# Altium schematic symbol library GFZJ 主控制板.SchLib: 26 symbols
Pins are listed as number, name and electrical type; pins without a type are passive.

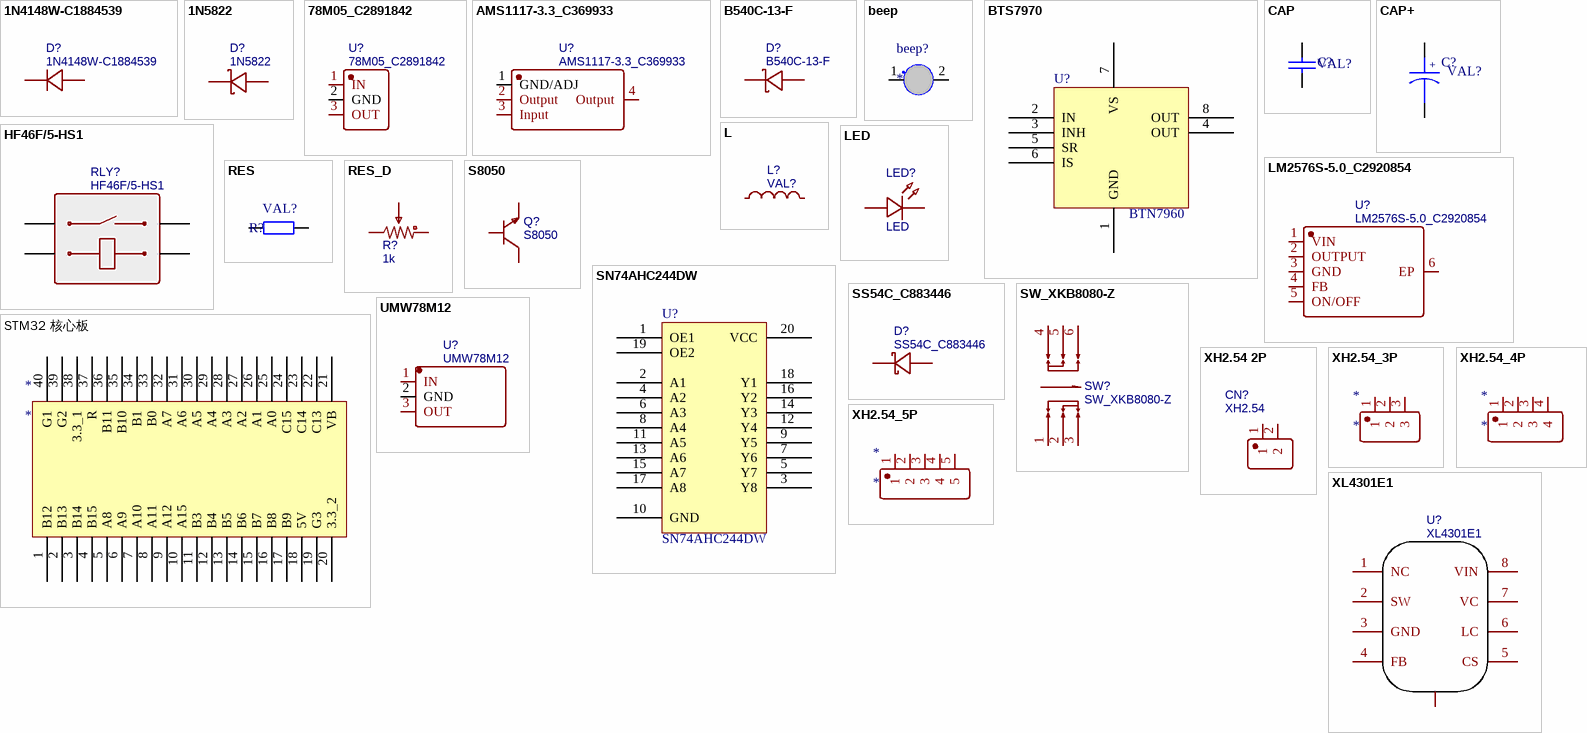
[diagram p0: symbols 1N4148W-C1884539 to XL4301E1]

## 1N4148W-C1884539
designator D?
BOM_Manufacturer: YFW佑风微; Contributor: LCSC; BOM_Supplier: LCSC; BOM_Supplier Part: C1884539; BOM_Manufacturer Part: 1N4148W; BOM_JLCPCB Part Class: Extended Part; spicePre: D; spiceSymbolName: 1N4148W-C1884539
footprint SOD-123_L2.8-W1.8-LS3.7-RD
pins: 1 K, 2 A

## 1N5822
designator D?
BOM_Manufacturer: KEXIN; BOM_Manufacturer Part: 1N5819; Contributor: LCSC; BOM_Supplier: LCSC; BOM_Supplier Part: C437199; BOM_JLCPCB Part Class: Extended Part; spicePre: D; spiceSymbolName: 1N5819_C437199
footprint SMA_L4.4-W2.6-LS5.0-RD
pins: 1 C, 2 A

## 78M05_C2891842
designator U?
78M05; BOM_Manufacturer: YONGYUTAI(永裕泰); Contributor: LCSC; BOM_Supplier: LCSC; BOM_Supplier Part: C2891842; BOM_Manufacturer Part: 78M05; BOM_JLCPCB Part Class: Extended Part; spicePre: U; spiceSymbolName: 78M05_C2891842
footprint TO-252-2_L6.5-W5.5-P4.58-LS9.8-BR-CW
pins: 1 IN, 2 GND, 3 OUT

## AMS1117-3.3_C369933
designator U?
AMS1117-3.3; BOM_Manufacturer: KEXIN; Contributor: LCSC; BOM_Supplier: LCSC; BOM_Supplier Part: C369933; BOM_Manufacturer Part: AMS1117-3.3; BOM_JLCPCB Part Class: Extended Part; spicePre: U; spiceSymbolName: AMS1117-3.3_C369933
footprint SOT-223-4_L6.5-W3.5-P2.30-LS7.0-BR
pins: 1 GND/ADJ, 2 Output, 3 Input, 4 Output

## B540C-13-F
designator D?
BOM_Manufacturer: DIODES; BOM_Supplier: LCSC; BOM_Manufacturer Part: B540C-13-F; BOM_Supplier Part: C72264; BOM_JLCPCB Part Class: Extended Part; spicePre: D; spiceSymbolName: B540C-13-F
footprint SMC_L6.9-W5.9-LS7.9-RD
pins: 1 K, 2 A

## beep
designator beep?
footprint beep
pins: 1, 2

## BTS7970
designator U?, comment BTN7960
footprint BTN7960
pins: 1 GND, 2 IN, 3 INH, 4 OUT, 5 SR, 6 IS, 7 VS, 8 OUT

## CAP
designator C?, comment value VAL?  (hidden comment: Capacitor)
footprint 0805C
footprint 0603C
footprint 1206C
pins: 1, 2

## CAP+
designator C?, comment value VAL?  (hidden comment: Capacitor)
footprint RB.1/.2
footprint RB.2/.4
footprint RB.3/.6
footprint RB.4/.8
footprint RB.1/.3
footprint CAP-TH_BD8.0-P3.50-D0.6-FD (8*12 (100uf 50v) (1000uf 10v))
footprint CAP-TH_BD5.0-P2.00-D0.8-FD
footprint 100uf6.3v钽电容
pins: 1, 2
text: +

## HF46F/5-HS1
designator RLY?
BOM_Manufacturer: HF; BOM_Supplier: LCSC; BOM_Manufacturer Part: HF46F/5-HS1; BOM_Supplier Part: C27167; BOM_JLCPCB Part Class: Extended Part; spicePre: R; spiceSymbolName: HF46F/5-HS1
footprint RELAY-TH_HF46F-XX-HS1XX-XXX
pins: 1, 2, 3, 4

## L
designator L?, comment VAL?
Inductance; BOM_Manufacturer: FH; BOM_Manufacturer Part: VLU0810-101K; BOM_Supplier: LCSC; nameAlias: Inductance; BOM_Supplier Part: C72630; BOM_JLCPCB Part Class: Extended Part; spicePre: L; spiceSymbolName: VLU0810-101K
footprint IND-TH_BD10.0-P5.00-D0.7
footprint 43uh 3A电感
pins: 1, 2

## LED
designator LED?
BOM_Manufacturer: EVERLIGHT(台湾亿光); BOM_Manufacturer Part: 19-217/R6C-AL1M2VY/3T; Contributor: LCEDA_01; BOM_Supplier Part: C72044; BOM_Supplier: LCSC; spicePre: L; spiceSymbolName: LED-0603_R
footprint LED0603_RED
footprint LED-TH_BD4.3-P2.54 (直插LED)
pins: 1, 2

## LM2576S-5.0_C2920854
designator U?
LM2576S-5.0; BOM_Manufacturer: minos(迈诺斯); Contributor: LCSC; BOM_Supplier: LCSC; BOM_Supplier Part: C2920854; BOM_Manufacturer Part: LM2576S-5.0; BOM_JLCPCB Part Class: Extended Part; spicePre: U; spiceSymbolName: LM2576S-5.0_C2920854
footprint TO-263-5_L10.2-W8.6-P1.70-LS14.4-TL
pins: 1 VIN, 2 OUTPUT, 3 GND, 4 FB, 5 ON/OFF, 6 EP

## RES
designator R?, comment value VAL?  (hidden comment: Resistor)
Resistor SMD - IEC symbol version; LatestRevisionDate: 27-Jul-20  -  Semtech
footprint 0603R
footprint 0805R
footprint 1206R
footprint 3216R
pins: 1, 2

## RES_D
designator R?, comment 1k
电位器; BOM_Manufacturer: Chengdu Guosheng Tech; BOM_Manufacturer Part: 3362P-1-102; nameAlias: Resistance; Contributor: LCSC; BOM_Supplier: LCSC; BOM_Supplier Part: C118947; Resistance(Ohms): 1K; Resistance (Ohms): 1K; BOM_JLCPCB Part Class: Extended Part; spicePre: R; spiceSymbolName: 3362P-1-102
footprint 电位器
pins: 1, 2, 3

## S8050
designator Q?
BOM_Manufacturer: BORN伯恩半导体; Contributor: mengruisheng; BOM_Supplier Part: C266592; BOM_Supplier: LCSC; spicePre: Q; spiceSymbolName: NPN; BOM_Manufacturer Part: S8050
footprint SOT-23
pins: 1 B, 2 E, 3 C

## SN74AHC244DW
designator U?
footprint sn74ahc244dw
pins: 1 OE1, 2 A1, 3 Y8, 4 A2, 5 Y7, 6 A3, 7 Y6, 8 A4, 9 Y5, 10 GND, 11 A5, 12 Y4, 13 A6, 14 Y3, 15 A7, 16 Y2, 17 A8, 18 Y1, 19 OE2, 20 VCC

## SS54C_C883446
designator D?
BOM_Manufacturer: DOWO; BOM_Manufacturer Part: SS54C; Contributor: LCSC; BOM_Supplier: LCSC; BOM_Supplier Part: C883446; BOM_JLCPCB Part Class: Extended Part; spicePre: D; spiceSymbolName: SS54C_C883446
footprint SMC_L6.9-W5.9-LS7.9-RD
pins: 1 C, 2 A

## STM32 核心板
designator *
STM32
footprint STM32_A
pins: 1 B12, 2 B13, 3 B14, 4 B15, 5 A8, 6 A9, 7 A10, 8 A11, 9 A12, 10 A15, 11 B3, 12 B4, 13 B5, 14 B6, 15 B7, 16 B8, 17 B9, 18 5V, 19 G3, 20 3.3_2, 21 VB, 22 C13, 23 C14, 24 C15, 25 A0, 26 A1, 27 A2, 28 A3, 29 A4, 30 A5, 31 A6, 32 A7, 33 B0, 34 B1, 35 B10, 36 B11, 37 R, 38 3.3_1, 39 G2, 40 G1

## SW_XKB8080-Z
designator SW?
8*8自锁/无锁按钮开关 自锁 按下2-3 4-5松开1-3 4-6; BOM_Manufacturer: XKB Enterprise; Contributor: LCSC; BOM_Supplier: LCSC; BOM_Supplier Part: C318860; BOM_Manufacturer Part: XKB8080-Z; BOM_JLCPCB Part Class: Extended Part; spicePre: S; spiceSymbolName: XKB8080-Z
footprint SW-TH_6P-L8.0-W8.0-P2.50
pins: 1, 2, 3, 4, 5, 6

## UMW78M12
designator U?
78M12; BOM_Manufacturer: Youtai Semiconductor Co., Ltd.; Contributor: LCSC; BOM_Supplier: LCSC; BOM_Supplier Part: C347282; BOM_Manufacturer Part: UMW78M12; BOM_JLCPCB Part Class: Extended Part; spicePre: U; spiceSymbolName: UMW78M12
footprint TO-252-2_L6.6-W6.1-P4.57-LS9.9-BR-CW
pins: 1 IN, 2 GND, 3 OUT

## XH2.54 2P
designator CN?, comment XH2.54
BOM_Manufacturer: BOOMELE; BOM_Manufacturer Part: XH2.54Acupuncture needles 16pin; BOM_Supplier: LCSC; BOM_Supplier Part: C24983; BOM_JLCPCB Part Class: Extended Part; spicePre: C; spiceSymbolName: XH-16AW
footprint XH2.54_2P (XH2.54)
footprint 5.08 LINKER 1*2 (5.08MM间距接线端子)
pins: 1, 2

## XH2.54_3P
designator *
footprint XH2.54_3P (XH2.54)
pins: 1, 2, 3

## XH2.54_4P
designator *
footprint XH2.54_4P (XH2.54)
pins: 1, 2, 3, 4

## XH2.54_5P
designator *
footprint XH2.54_5P (XH2.54)
pins: 1, 2, 3, 4, 5

## XL4301E1
designator U?
BOM_Manufacturer: XLSEMI; BOM_Supplier: LCSC; BOM_Manufacturer Part: XL4301E1; BOM_Supplier Part: C73024; BOM_JLCPCB Part Class: Extended Part; spicePre: U; spiceSymbolName: XL4301E1
footprint SOIC-8_L5.0-W4.0-P1.27-LS6.0-BL-EP2.0
pins: 1 NC, 2 SW, 3 GND, 4 FB, 5 CS, 6 LC, 7 VC, 8 VIN, 9